# Altium schematic symbol library SPT3G_LCBoard.SchLib: 22 symbols
Pins are listed as number, name and electrical type; pins without a type are passive.

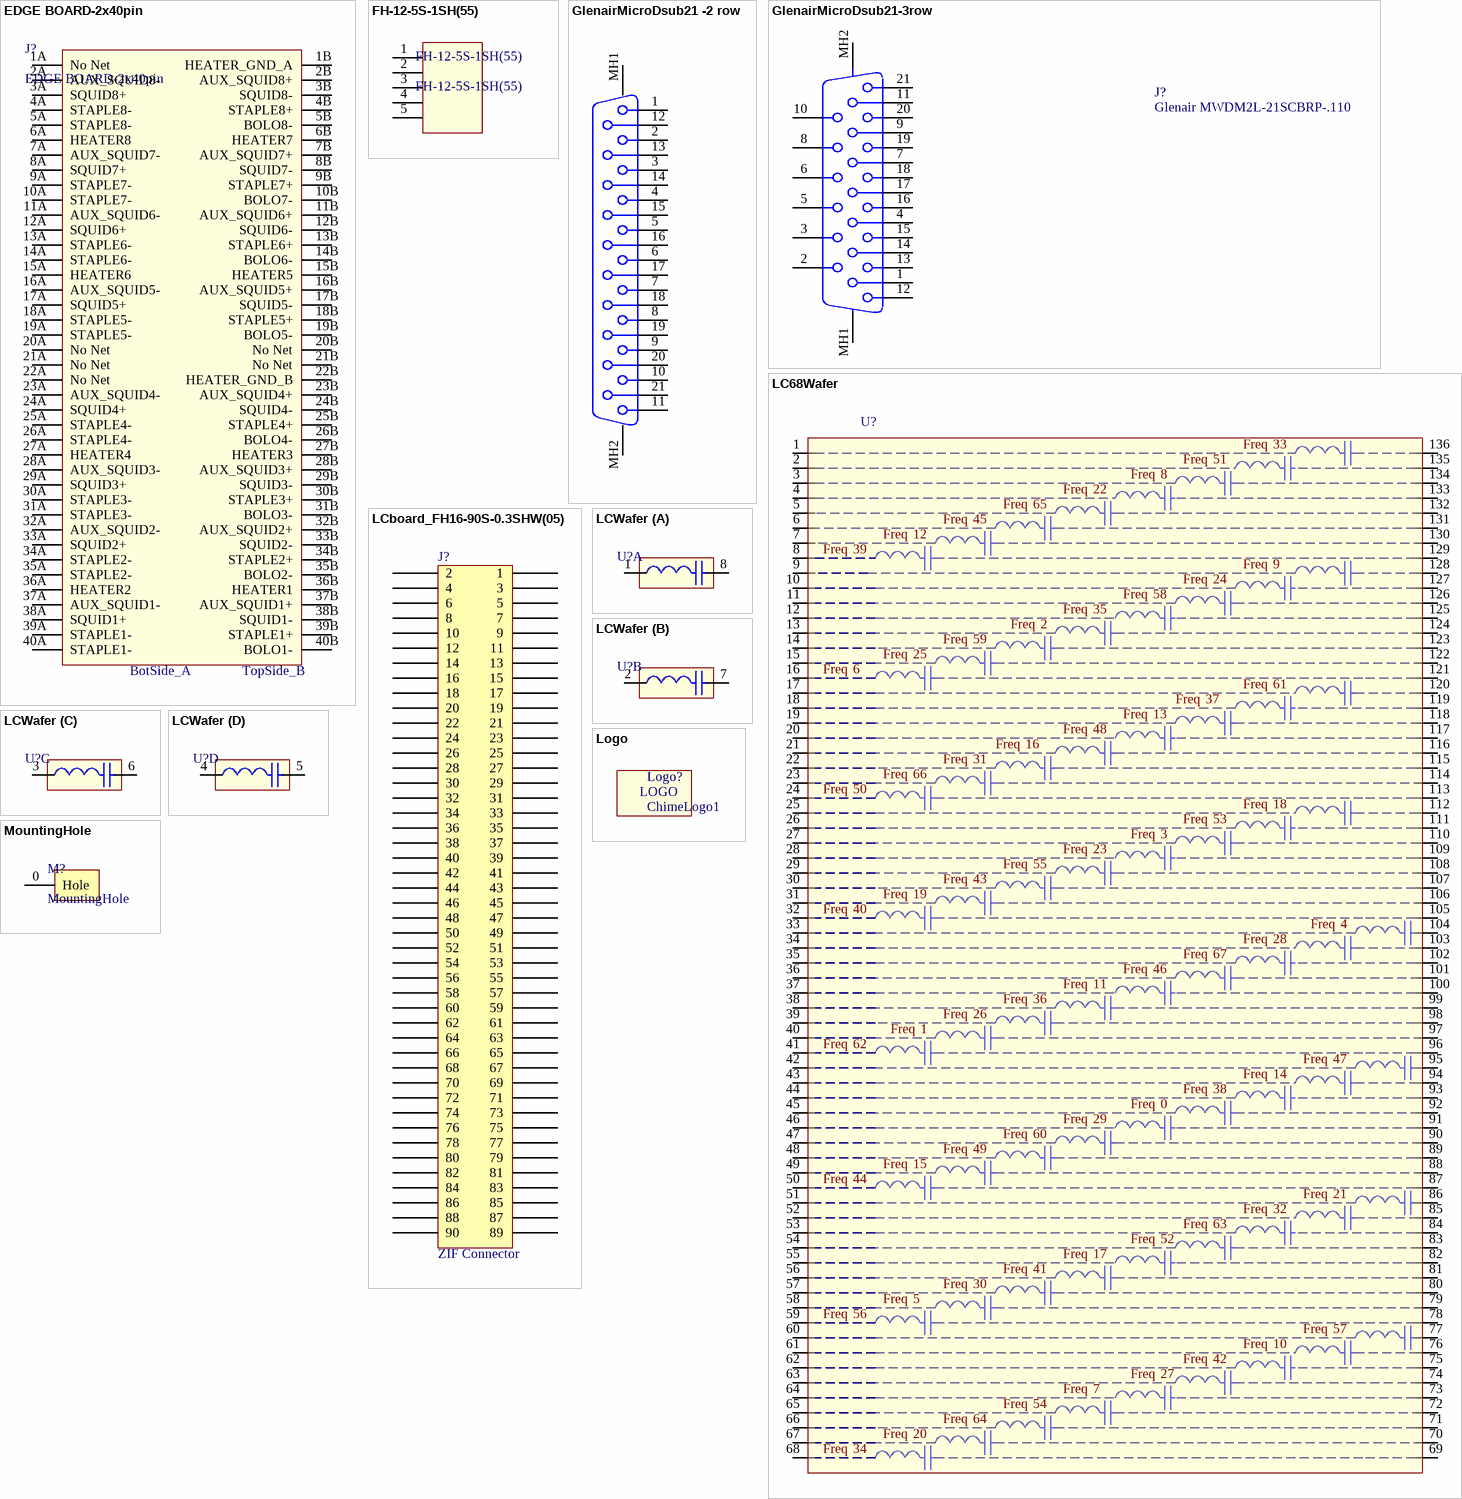
[diagram p0: symbols EDGE BOARD-2x40pin to MountingHole]

## EDGE BOARD-2x40pin
designator J?
Edge connector
pins: 1A No Net, 1B HEATER_GND_A, 2A AUX_SQUID8-, 2B AUX_SQUID8+, 3A SQUID8+, 3B SQUID8-, 4A STAPLE8-, 4B STAPLE8+, 5A STAPLE8-, 5B BOLO8-, 6A HEATER8, 6B HEATER7, 7A AUX_SQUID7-, 7B AUX_SQUID7+, 8A SQUID7+, 8B SQUID7-, 9A STAPLE7-, 9B STAPLE7+, 10A STAPLE7-, 10B BOLO7-, 11A AUX_SQUID6-, 11B AUX_SQUID6+, 12A SQUID6+, 12B SQUID6-, 13A STAPLE6-, 13B STAPLE6+, 14A STAPLE6-, 14B BOLO6-, 15A HEATER6, 15B HEATER5, 16A AUX_SQUID5-, 16B AUX_SQUID5+, 17A SQUID5+, 17B SQUID5-, 18A STAPLE5-, 18B STAPLE5+, 19A STAPLE5-, 19B BOLO5-, 20A No Net, 20B No Net, 21A No Net, 21B No Net, 22A No Net, 22B HEATER_GND_B, 23A AUX_SQUID4-, 23B AUX_SQUID4+, 24A SQUID4+, 24B SQUID4-, 25A STAPLE4-, 25B STAPLE4+, 26A STAPLE4-, 26B BOLO4-, 27A HEATER4, 27B HEATER3, 28A AUX_SQUID3-, 28B AUX_SQUID3+, 29A SQUID3+, 29B SQUID3-, 30A STAPLE3-, 30B STAPLE3+, 31A STAPLE3-, 31B BOLO3-, 32A AUX_SQUID2-, 32B AUX_SQUID2+, 33A SQUID2+, 33B SQUID2-, 34A STAPLE2-, 34B STAPLE2+, 35A STAPLE2-, 35B BOLO2-, 36A HEATER2, 36B HEATER1, 37A AUX_SQUID1-, 37B AUX_SQUID1+, 38A SQUID1+, 38B SQUID1-, 39A STAPLE1-, 39B STAPLE1+, 40A STAPLE1-, 40B BOLO1-
text: BotSide_A; TopSide_B

## FH-12-5S-1SH(55)
designator FH-12-5S-1SH(55)
footprint FH-12-5S-1SH(55)
pins: 1, 2, 3, 4, 5

## GlenairMicroDsub21 -2 row
designator J?, comment Glenair MWDM2L-21PBS-.110
GlenairMicroDsub21 -2 row
footprint MicroD21Glenair-Vert2row
pins: 1, 2, 3, 4, 5, 6, 7, 8, 9, 10, 11, 12, 13, 14, 15, 16, 17, 18, 19, 20, 21, MH1, MH2

## GlenairMicroDsub21-3row
designator J?, comment Glenair MWDM2L-21SCBRP-.110
GlenairMicroDsub21 - 3 row; PackageDescription: Connector; D-Sub, Thru-Hole; 9 Position; Vertical; Body 30.81 x 9.60 x 8.20 mm (LxWxH)
footprint MicroD21Glenair-RA3row
pins: 1, 2, 3, 4, 5, 6, 7, 8, 9, 10, 11, 12, 13, 14, 15, 16, 17, 18, 19, 20, 21, MH1, MH2

## LC68Wafer
designator U?, comment LC68_wafer  (value not drawn)
Gold bonded integrated LC
footprint 68xLC
pins: 1, 2, 3, 4, 5, 6, 7, 8, 9, 10, 11, 12, 13, 14, 15, 16, 17, 18, 19, 20, 21, 22, 23, 24, 25, 26, 27, 28, 29, 30, 31, 32, 33, 34, 35, 36, 37, 38, 39, 40, 41, 42, 43, 44, 45, 46, 47, 48, 49, 50, 51, 52, 53, 54, 55, 56, 57, 58, 59, 60, 61, 62, 63, 64, 65, 66, 67, 68, 69, 70, 71, 72, 73, 74, 75, 76, 77, 78, 79, 80, 81, 82, 83, 84, 85, 86, 87, 88, 89, 90, 91, 92, 93, 94, 95, 96, 97, 98, 99, 100, 101, 102, 103, 104, 105, 106, 107, 108, 109, 110, 111, 112, 113, 114, 115, 116, 117, 118, 119, 120, 121, 122, 123, 124, 125, 126, 127, 128, 129, 130, 131, 132, 133, 134, 135, 136
text: Freq; 0

## LCboard_FH16-90S-0.3SHW(05)
designator J?, comment ZIF Connector
footprint LCBoard_ZIFCon (HFP190CT-ND)
pins: 1, 2, 3, 4, 5, 6, 7, 8, 9, 10, 11, 12, 13, 14, 15, 16, 17, 18, 19, 20, 21, 22, 23, 24, 25, 26, 27, 28, 29, 30, 31, 32, 33, 34, 35, 36, 37, 38, 39, 40, 41, 42, 43, 44, 45, 46, 47, 48, 49, 50, 51, 52, 53, 54, 55, 56, 57, 58, 59, 60, 61, 62, 63, 64, 65, 66, 67, 68, 69, 70, 71, 72, 73, 74, 75, 76, 77, 78, 79, 80, 81, 82, 83, 84, 85, 86, 87, 88, 89, 90

## LCWafer
designator U?, comment LC_wafer  (value not drawn)
Gold bonded integrated LC
footprint LCCHIP4X2 - BondPads1 (LCCHIP4X2)
part A pins: 1, 8
part B pins: 2, 7
part C pins: 3, 6
part D pins: 4, 5

## Logo
designator Logo?, comment ChimeLogo1  (no BOM)
footprint ChimeLogo1
text: LOGO

## MountingHole
designator M?
footprint MountingHole (Mounting Hole)
pins: 0 Hole

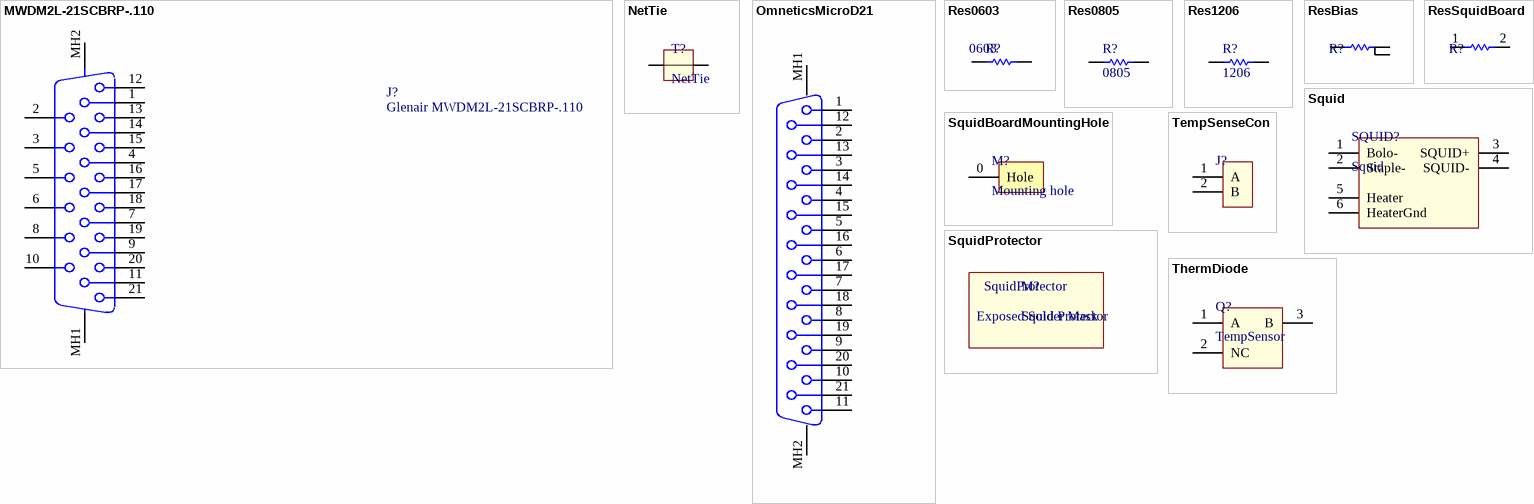
[diagram p1: symbols MWDM2L-21SCBRP-.110 to ThermDiode]

## MWDM2L-21SCBRP-.110
designator J?, comment Glenair MWDM2L-21SCBRP-.110
Glenair 21pin RA Micro Dsub socket - MWDM2L-21SCBRP-.110; PackageDescription: Connector; D-Sub, Thru-Hole; 9 Position; Vertical; Body 30.81 x 9.60 x 8.20 mm (LxWxH)
footprint MWDM2L-21SCBRP-.110
pins: 1, 2, 3, 4, 5, 6, 7, 8, 9, 10, 11, 12, 13, 14, 15, 16, 17, 18, 19, 20, 21, MH1, MH2

## NetTie
designator T?  (net tie, no BOM)
footprint NetTie1
pins: 1 A, 2 B

## OmneticsMicroD21
designator J?, comment Omnetics MMDx-021-B00-R2
OmneticsMicroD21
footprint MMDx-021-B00-R2 (Omnetrics21pinR2Tail)
pins: 1, 2, 3, 4, 5, 6, 7, 8, 9, 10, 11, 12, 13, 14, 15, 16, 17, 18, 19, 20, 21, MH1, MH2

## Res0603
designator R?, comment 0603
RES 1 OHM 1/10W 1% 0603 SMD; Value: 1; TechInfo: *
simulation model RESISTOR (Resistor)
signal-integrity model Res
footprint 0603
pins: 1, 2

## Res0805
designator R?  Footprint: 0805
Resistor; Param1: 100ppm/C; Value: DNL; Param: 1%; TechInfo: *
simulation model RESISTOR (Resistor)
signal-integrity model Res
footprint 0805
pins: 1, 2

## Res1206
designator R?  Footprint: 1206
Resistor; Param1: 100ppm/C; Value: DNL; Param: 1%; TechInfo: *
simulation model RESISTOR (Resistor)
signal-integrity model Res
footprint CR1608-0603M (Chip Resistor; Body 1.6 x 0.8 mm (LxW typ))
footprint 1206
pins: 1, 2

## ResBias
designator R?  (net tie, no BOM)
Resistor
footprint SM/C_1206/0805 - holesinpad
footprint 0805NetTie
pins: 1, 2A 2, 2B 2

## ResSquidBoard
designator R?
Resistor
footprint SM/C_1206/0805
footprint SM/C_1206/0805 - holesinpad
pins: 1, 2

## Squid
designator SQUID?  (net tie)
footprint Squid
pins: 1 Bolo-, 2 Staple-, 3 SQUID+, 4 SQUID-, 5 Heater, 6 HeaterGnd
1 alternate drawing of the same symbol

## SquidBoardMountingHole
designator M?, comment Mounting hole
footprint MountingHoleSquidBoard
pins: 0 Hole

## SquidProtector
designator M?, comment Squid Protector  (no BOM)
footprint SquidProtector
text: Exposed Solder Mask

## TempSenseCon
designator J?, comment TempSenseWireConnection  (value not drawn)
footprint TempSenseWireCons
footprint TempSenseWireCons
pins: 1 A, 2 B

## ThermDiode
designator Q?, comment TempSensor
footprint SOT23
pins: 1 A, 2 NC, 3 B